# Altium footprint library INFINITY.Resistor.PcbLib: 6 footprints
Each footprint in its own frame and in the unit in brackets; x right, y up, seen from the top. Pads: shape width x height; smd on the part's side, far side on the other; paste and mask are expansions set on the pad; w line width, h text height; cw(c..) or ccw(c..) is an arc to the next point about the centre after c.
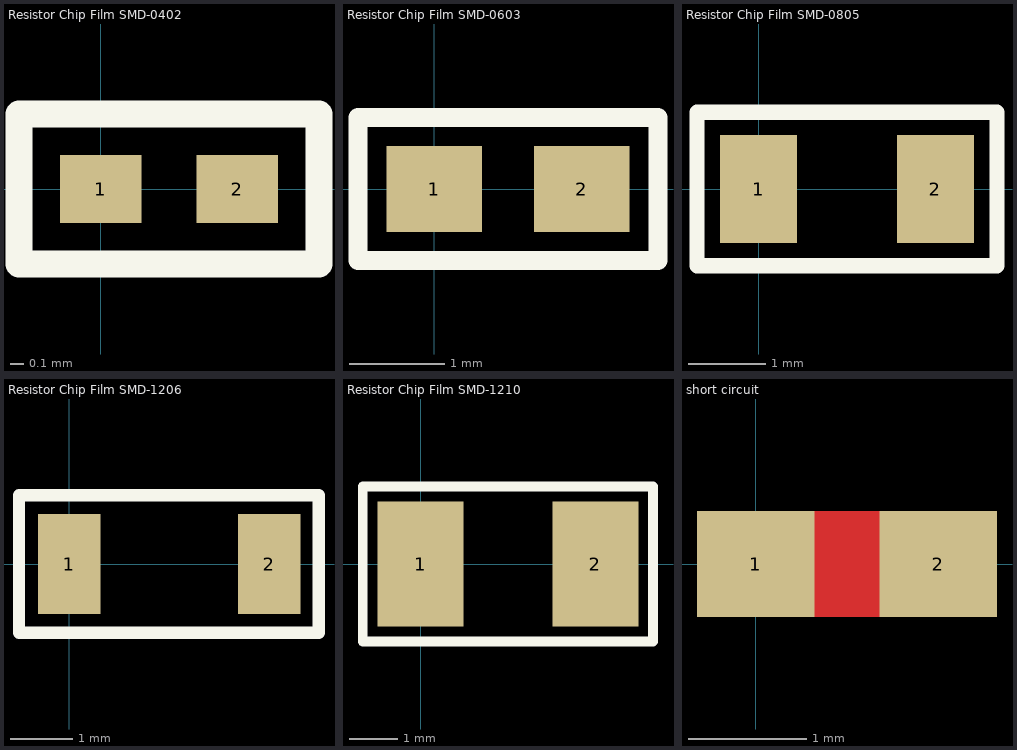
[diagram p0: the footprints below, top view; thin cyan lines are the x and y axes]

## Resistor Chip Film SMD-0402 [mm]
pads (2):
  rect 0.6x0.5 smd: 1(0,0) 2(1,0)
Top Overlay:
  lines w0.2: -0.6,-0.55 -0.6,0.55 1.6,0.55 1.6,-0.55 -0.6,-0.55
3D body "Resistor Chip Film SMD-0402.STEP": height 0.35, standoff 0, extent 0,-0.25 1,0.25

## Resistor Chip Film SMD-0603 [mm]
pads (2):
  rect 1x0.9 smd: 1(0,0) 2(1.55,0)
Top Overlay:
  lines w0.2: -0.8,-0.75 2.35,-0.75 2.35,0.75 -0.8,0.75 -0.8,-0.75
3D body "Resistor Chip Film SMD-0603.STEP": height 0.26, standoff -0.19, extent -0.024,-0.423 1.616,0.427

## Resistor Chip Film SMD-0805 [mm]
pads (2):
  rect 1x1.4 smd: 1(0,0) 2(2.3,0)
Top Overlay:
  lines w0.2: -0.8,-1 -0.8,1 3.1,1 3.1,-1 -0.8,-1
3D body "Resistor Chip Film SMD-0805.STEP": height 0.76, standoff 0, extent 0,-0.675 2.3,0.675

## Resistor Chip Film SMD-1206 [mm]
pads (2):
  rect 1x1.6 smd: 1(0,0) 2(3.2,0)
Top Overlay:
  lines w0.2: -0.8,-1.1 4,-1.1 4,1.1 -0.8,1.1 -0.8,-1.1
3D body "Resistor Chip Film SMD-1206.STEP": height 0.44, standoff -0.11, extent 0.01,-0.8 3.21,0.8

## Resistor Chip Film SMD-1210 [mil]
pads (2):
  rect 70x102 smd: 1(0,0) 2(142,0)
Top Overlay:
  lines w7.87: -47.24,-62.99 188.98,-62.99 188.98,62.99 -47.24,62.99 -47.24,-62.99

## short circuit [mm]
pads (2):
  rect 1x0.9 smd: 1(0,0) 2(1.55,0)
Top Layer:
  lines w0.9: 0,0 1.55,0